# Altium footprint library WR-WTB.PcbLib: 259 footprints (part 11 of 17)
Each footprint in its own frame and in the unit in brackets; x right, y up, seen from the top. Pads: shape width x height; smd on the part's side, far side on the other; paste and mask are expansions set on the pad; w line width, h text height; cw(c..) or ccw(c..) is an arc to the next point about the centre after c.
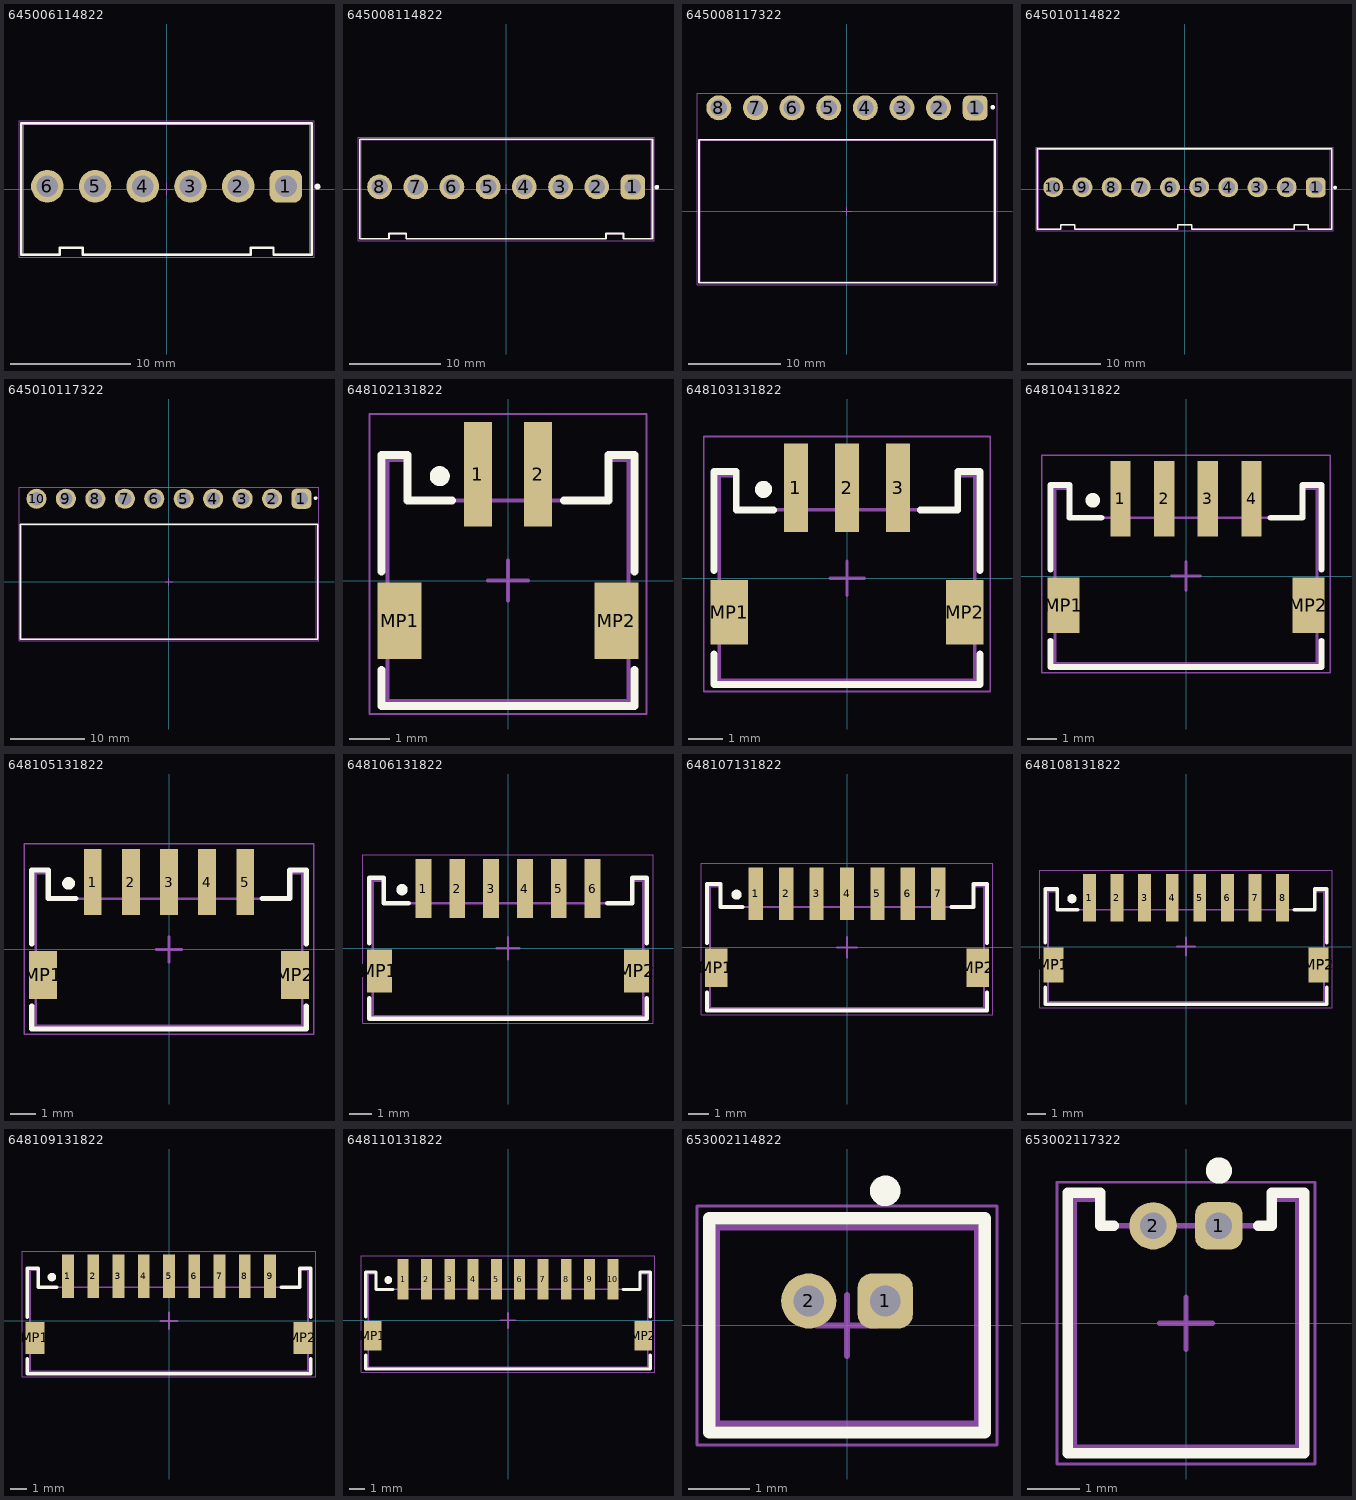
[diagram p10: the footprints below, top view; thin cyan lines are the x and y axes]

## 645006114822 [mm] "3.96mm Male Locking Header, 6p"
height 13.85
pads (6):
  rrect50% 2.7x2.7 hole 1.8: 1(9.9,0.225)
  round 2.7 hole 1.8: 2(5.94,0.225) 3(1.98,0.225) 4(-1.98,0.225) 5(-5.94,0.225) 6(-9.9,0.225)
Top Overlay:
  circle w0.25: c12.52,0.2 r0.125
  lines w0.2: -12.055,-5.45 -8.87,-5.45 -8.87,-4.875 -6.97,-4.875 -6.97,-5.45 6.97,-5.45 6.97,-4.875 8.87,-4.875 8.87,-5.45 12.055,-5.45 12.055,5.45 -12.055,5.45 -12.055,-5.45
Top Assembly:
  lines w0.1: -11.88,-5.375 -11.88,5.375 11.88,5.375 11.88,-5.375 8.87,-5.375 8.87,-4.875 6.97,-4.875 6.97,-5.375 -6.97,-5.375 -6.97,-4.875 -8.87,-4.875 -8.87,-5.375 -11.88,-5.375
Top Designator:
  text ".Designator" at -3.647,-0.357 h1
Top Courtyard:
  lines w0.05: -12.255,-5.65 -12.255,5.65 12.255,5.65 12.255,-5.65 -12.255,-5.65
Top Component Center:
  lines w0.1: -0.5,0 0.5,0 ; 0,-0.5 0,0.5
3D body "645006114822.stp": height 13.89, standoff -3.56, extent -11.935,-5.375 11.935,5.375

## 645008114822 [mm] "3.96mm Male Locking Header, 8p"
height 13.85
pads (8):
  rrect50% 2.7x2.7 hole 1.8: 1(13.86,0.225)
  round 2.7 hole 1.8: 2(9.9,0.225) 3(5.94,0.225) 4(1.98,0.225) 5(-1.98,0.225) 6(-5.94,0.225) 7(-9.9,0.225) 8(-13.86,0.225)
Top Overlay:
  circle w0.25: c16.48,0.2 r0.125
  lines w0.2: -16.015,-5.45 -16.015,5.45 16.015,5.45 16.015,-5.45 12.83,-5.45 12.83,-4.875 10.93,-4.875 10.93,-5.45 -10.93,-5.45 -10.93,-4.875 -12.83,-4.875 -12.83,-5.45 -16.015,-5.45
Top Assembly:
  lines w0.1: -15.84,-5.375 -15.84,5.375 15.84,5.375 15.84,-5.375 12.83,-5.375 12.83,-4.875 10.93,-4.875 10.93,-5.375 -10.93,-5.375 -10.93,-4.875 -12.83,-4.875 -12.83,-5.375 -15.84,-5.375
Top Designator:
  text ".Designator" at -3.647,-0.357 h1
Top Courtyard:
  lines w0.05: -16.215,-5.65 16.215,-5.65 16.215,5.65 -16.215,5.65 -16.215,-5.65
Top Component Center:
  lines w0.1: -0.5,0 0.5,0 ; 0,-0.5 0,0.5
3D body "645008114822.stp": height 13.89, standoff -3.56, extent -15.895,-5.375 15.895,5.375

## 645008117322 [mm] "3.96mm Male Right Angled Locking Header, 8p"
height 15.3
pads (8):
  rrect50% 2.7x2.7 hole 1.8: 1(13.86,11.18)
  round 2.7 hole 1.8: 2(9.9,11.18) 3(5.94,11.18) 4(1.98,11.18) 5(-1.98,11.18) 6(-5.94,11.18) 7(-9.9,11.18) 8(-13.86,11.18)
Top Overlay:
  circle w0.25: c15.755,11.25 r0.125
  lines w0.2: -16.015,-7.725 16.015,-7.725 16.015,7.725 -16.015,7.725 -16.015,-7.725
Top Assembly:
  lines w0.1: -15.84,-7.65 -15.84,7.65 15.84,7.65 15.84,-7.65 -15.84,-7.65
Top Designator:
  text ".Designator" at -3.647,-0.357 h1
Top Courtyard:
  lines w0.05: -16.215,-7.925 -16.215,12.73 16.215,12.73 16.215,-7.925 -16.215,-7.925
Top Component Center:
  lines w0.1: -0.5,0 0.5,0 ; 0,-0.5 0,0.5
3D body "645008117322.stp": height 10.79, standoff -3.63, extent -15.895,-7.65 15.895,11.8

## 645010114822 [mm] "3.96mm Male Locking Header, 10p"
height 13.85
pads (10):
  rrect50% 2.7x2.7 hole 1.8: 1(17.82,0.225)
  round 2.7 hole 1.8: 2(13.86,0.225) 3(9.9,0.225) 4(5.94,0.225) 5(1.98,0.225) 6(-1.98,0.225) 7(-5.94,0.225) 8(-9.9,0.225) 9(-13.86,0.225) 10(-17.82,0.225)
Top Overlay:
  circle w0.25: c20.44,0.2 r0.125
  lines w0.2: -19.975,-5.45 -19.975,5.45 19.975,5.45 19.975,-5.45 16.79,-5.45 16.79,-4.875 14.89,-4.875 14.89,-5.45 0.95,-5.45 0.95,-4.875 -0.95,-4.875 -0.95,-5.45 -14.89,-5.45 -14.89,-4.875 -16.79,-4.875 -16.79,-5.45 -19.975,-5.45
Top Assembly:
  lines w0.1: -19.8,-5.375 -19.8,5.375 19.8,5.375 19.8,-5.375 16.79,-5.375 16.79,-4.875 14.89,-4.875 14.89,-5.375 0.95,-5.375 0.95,-4.875 -0.95,-4.875 -0.95,-5.375 -14.89,-5.375 -14.89,-4.875 -16.79,-4.875 -16.79,-5.375 -19.8,-5.375
Top Designator:
  text ".Designator" at -3.647,-0.357 h1
Top Courtyard:
  lines w0.05: -20.175,-5.65 20.175,-5.65 20.175,5.65 -20.175,5.65 -20.175,-5.65
Top Component Center:
  lines w0.1: -0.5,0 0.5,0 ; 0,-0.5 0,0.5
3D body "645010114822.stp": height 13.89, standoff -3.56, extent -19.855,-5.375 19.855,5.375

## 645010117322 [mm] "3.96mm Male Right Angled Locking Header, 10p"
height 15.3
pads (10):
  rrect50% 2.7x2.7 hole 1.8: 1(17.82,11.18)
  round 2.7 hole 1.8: 2(13.86,11.18) 3(9.9,11.18) 4(5.94,11.18) 5(1.98,11.18) 6(-1.98,11.18) 7(-5.94,11.18) 8(-9.9,11.18) 9(-13.86,11.18) 10(-17.82,11.18)
Top Overlay:
  circle w0.25: c19.715,11.25 r0.125
  lines w0.2: -19.975,-7.725 -19.975,7.725 19.975,7.725 19.975,-7.725 -19.975,-7.725
Top Assembly:
  lines w0.1: -19.8,-7.65 19.8,-7.65 19.8,7.65 -19.8,7.65 -19.8,-7.65
Top Designator:
  text ".Designator" at -3.647,-0.357 h1
Top Courtyard:
  lines w0.05: -20.175,-7.925 20.175,-7.925 20.175,12.73 -20.175,12.73 -20.175,-7.925
Top Component Center:
  lines w0.1: -0.5,0 0.5,0 ; 0,-0.5 0,0.5
3D body "645010117322.stp": height 10.79, standoff -3.55, extent -19.855,-7.6 19.855,11.8

## 648102131822 [mm] "1.50mm SMT Male Horizontal Shrouded Header, 2p"
height 3.7
pads (4):
  rect 0.7x2.6 smd: 1(-0.75,2.65) 2(0.75,2.65)
  rect 1.1x1.9 smd: MP1(-2.7,-1) MP2(2.7,-1)
Top Overlay:
  circle w0.25: c-1.7,2.6 r0.125
  lines w0.2: -3.15,-2.225 -3.15,-3.125 3.15,-3.125 3.15,-2.225 ; -3.15,0.225 -3.15,3.125 -2.5,3.125 -2.5,2 -1.4,2 ; 1.4,2 2.5,2 2.5,3.125 3.15,3.125 3.15,0.225
Top Assembly:
  lines w0.1: -3,-3 -3,3 -2.5,3 -2.5,2 2.5,2 2.5,3 3,3 3,-3 -3,-3
Top Designator:
  text ".Designator" at -3.647,-0.357 h1
Top Courtyard:
  lines w0.05: -3.45,-3.325 -3.45,4.15 3.45,4.15 3.45,-3.325 -3.45,-3.325
Top Component Center:
  lines w0.1: -0.5,0 0.5,0 ; 0,-0.5 0,0.5
3D body "648102131822.stp": height 3.74, standoff -0.01, extent -3.105,-3 3.105,3.47

## 648103131822 [mm] "1.50mm SMT Male Horizontal Shrouded Header, 3p"
height 3.7
pads (5):
  rect 0.7x2.6 smd: 1(-1.5,2.65) 2(0,2.65) 3(1.5,2.65)
  rect 1.1x1.9 smd: MP1(-3.45,-1) MP2(3.45,-1)
Top Overlay:
  circle w0.25: c-2.45,2.6 r0.125
  lines w0.2: -3.9,-2.225 -3.9,-3.125 3.9,-3.125 3.9,-2.225 ; -3.9,0.225 -3.9,3.125 -3.25,3.125 -3.25,2 -2.15,2 ; 2.15,2 3.25,2 3.25,3.125 3.9,3.125 3.9,0.225
Top Assembly:
  lines w0.1: -3.75,-3 3.75,-3 3.75,3 3.25,3 3.25,2 -3.25,2 -3.25,3 -3.75,3 -3.75,-3
Top Designator:
  text ".Designator" at -3.647,-0.357 h1
Top Courtyard:
  lines w0.05: -4.2,-3.325 4.2,-3.325 4.2,4.15 -4.2,4.15 -4.2,-3.325
Top Component Center:
  lines w0.1: -0.5,0 0.5,0 ; 0,-0.5 0,0.5
3D body "648103131822.stp": height 3.74, standoff -0.01, extent -3.855,-3 3.855,3.47

## 648104131822 [mm] "1.50mm SMT Male Horizontal Shrouded Header, 4p"
height 3.7
pads (6):
  rect 0.7x2.6 smd: 1(-2.25,2.65) 2(-0.75,2.65) 3(0.75,2.65) 4(2.25,2.65)
  rect 1.1x1.9 smd: MP1(-4.2,-1) MP2(4.2,-1)
Top Overlay:
  circle w0.25: c-3.2,2.6 r0.125
  lines w0.2: -4.65,-2.225 -4.65,-3.125 4.65,-3.125 4.65,-2.225 ; -4.65,0.225 -4.65,3.125 -4,3.125 -4,2 -2.9,2 ; 2.9,2 4,2 4,3.125 4.65,3.125 4.65,0.225
Top Assembly:
  lines w0.1: -4.5,-3 4.5,-3 4.5,3 4,3 4,2 -4,2 -4,3 -4.5,3 -4.5,-3
Top Designator:
  text ".Designator" at -3.647,-0.357 h1
Top Courtyard:
  lines w0.05: -4.95,-3.325 4.95,-3.325 4.95,4.15 -4.95,4.15 -4.95,-3.325
Top Component Center:
  lines w0.1: -0.5,0 0.5,0 ; 0,-0.5 0,0.5
3D body "648104131822.stp": height 3.74, standoff -0.01, extent -4.605,-3 4.605,3.47

## 648105131822 [mm] "1.50mm SMT Male Horizontal Shrouded Header, 5p"
height 3.7
pads (7):
  rect 0.7x2.6 smd: 1(-3,2.65) 2(-1.5,2.65) 3(0,2.65) 4(1.5,2.65) 5(3,2.65)
  rect 1.1x1.9 smd: MP1(-4.95,-1) MP2(4.95,-1)
Top Overlay:
  circle w0.25: c-3.95,2.6 r0.125
  lines w0.2: -5.4,-2.225 -5.4,-3.125 5.4,-3.125 5.4,-2.225 ; -5.4,0.225 -5.4,3.125 -4.75,3.125 -4.75,2 -3.65,2 ; 3.65,2 4.75,2 4.75,3.125 5.4,3.125 5.4,0.225
Top Assembly:
  lines w0.1: -5.25,-3 5.25,-3 5.25,3 4.75,3 4.75,2 -4.75,2 -4.75,3 -5.25,3 -5.25,-3
Top Designator:
  text ".Designator" at -3.647,-0.357 h1
Top Courtyard:
  lines w0.05: -5.7,-3.325 5.7,-3.325 5.7,4.15 -5.7,4.15 -5.7,-3.325
Top Component Center:
  lines w0.1: -0.5,0 0.5,0 ; 0,-0.5 0,0.5
3D body "648105131822.stp": height 3.74, standoff -0.01, extent -5.355,-3 5.355,3.47

## 648106131822 [mm] "1.50mm SMT Male Horizontal Shrouded Header, 6p"
height 3.7
pads (8):
  rect 0.7x2.6 smd: 1(-3.75,2.65) 2(-2.25,2.65) 3(-0.75,2.65) 4(0.75,2.65) 5(2.25,2.65) 6(3.75,2.65)
  rect 1.1x1.9 smd: MP1(-5.7,-1) MP2(5.7,-1)
Top Overlay:
  circle w0.25: c-4.7,2.6 r0.125
  lines w0.2: -6.15,-2.225 -6.15,-3.125 6.15,-3.125 6.15,-2.225 ; -6.15,0.225 -6.15,3.125 -5.5,3.125 -5.5,2 -4.4,2 ; 4.4,2 5.5,2 5.5,3.125 6.15,3.125 6.15,0.225
Top Assembly:
  lines w0.1: -6,-3 6,-3 6,3 5.5,3 5.5,2 -5.5,2 -5.5,3 -6,3 -6,-3
Top Designator:
  text ".Designator" at -3.647,-0.357 h1
Top Courtyard:
  lines w0.05: -6.45,-3.325 6.45,-3.325 6.45,4.15 -6.45,4.15 -6.45,-3.325
Top Component Center:
  lines w0.1: -0.5,0 0.5,0 ; 0,-0.5 0,0.5
3D body "648106131822.stp": height 3.74, standoff -0.01, extent -6.105,-3 6.105,3.47

## 648107131822 [mm] "1.50mm SMT Male Horizontal Shrouded Header, 7p"
height 3.7
pads (9):
  rect 0.7x2.6 smd: 1(-4.5,2.65) 2(-3,2.65) 3(-1.5,2.65) 4(0,2.65) 5(1.5,2.65) 6(3,2.65) 7(4.5,2.65)
  rect 1.1x1.9 smd: MP1(-6.45,-1) MP2(6.45,-1)
Top Overlay:
  circle w0.25: c-5.45,2.6 r0.125
  lines w0.2: -6.9,-2.225 -6.9,-3.125 6.9,-3.125 6.9,-2.225 ; -6.9,0.225 -6.9,3.125 -6.25,3.125 -6.25,2 -5.15,2 ; 5.15,2 6.25,2 6.25,3.125 6.9,3.125 6.9,0.225
Top Assembly:
  lines w0.1: -6.75,-3 -6.75,3 -6.25,3 -6.25,2 6.25,2 6.25,3 6.75,3 6.75,-3 -6.75,-3
Top Designator:
  text ".Designator" at -3.647,-0.357 h1
Top Courtyard:
  lines w0.05: -7.2,-3.325 -7.2,4.15 7.2,4.15 7.2,-3.325 -7.2,-3.325
Top Component Center:
  lines w0.1: -0.5,0 0.5,0 ; 0,-0.5 0,0.5
3D body "648107131822.stp": height 3.74, standoff -0.01, extent -6.855,-3 6.855,3.47

## 648108131822 [mm] "1.50mm SMT Male Horizontal Shrouded Header, 8p"
height 3.7
pads (10):
  rect 0.7x2.6 smd: 1(-5.25,2.65) 2(-3.75,2.65) 3(-2.25,2.65) 4(-0.75,2.65) 5(0.75,2.65) 6(2.25,2.65) 7(3.75,2.65) 8(5.25,2.65)
  rect 1.1x1.9 smd: MP1(-7.2,-1) MP2(7.2,-1)
Top Overlay:
  circle w0.25: c-6.2,2.6 r0.125
  lines w0.2: -7.65,-2.225 -7.65,-3.125 7.65,-3.125 7.65,-2.225 ; -7.65,0.225 -7.65,3.125 -7,3.125 -7,2 -5.9,2 ; 5.9,2 7,2 7,3.125 7.65,3.125 7.65,0.225
Top Assembly:
  lines w0.1: -7.5,-3 -7.5,3 -7,3 -7,2 7,2 7,3 7.5,3 7.5,-3 -7.5,-3
Top Designator:
  text ".Designator" at -3.647,-0.357 h1
Top Courtyard:
  lines w0.05: -7.95,-3.325 -7.95,4.15 7.95,4.15 7.95,-3.325 -7.95,-3.325
Top Component Center:
  lines w0.1: -0.5,0 0.5,0 ; 0,-0.5 0,0.5
3D body "648108131822.stp": height 3.74, standoff -0.01, extent -7.605,-3 7.605,3.47

## 648109131822 [mm] "1.50mm SMT Male Horizontal Shrouded Header, 9p"
height 3.7
pads (11):
  rect 0.7x2.6 smd: 1(-6,2.65) 2(-4.5,2.65) 3(-3,2.65) 4(-1.5,2.65) 5(0,2.65) 6(1.5,2.65) 7(3,2.65) 8(4.5,2.65) 9(6,2.65)
  rect 1.1x1.9 smd: MP1(-7.95,-1) MP2(7.95,-1)
Top Overlay:
  circle w0.25: c-6.95,2.6 r0.125
  lines w0.2: -8.4,-2.225 -8.4,-3.125 8.4,-3.125 8.4,-2.225 ; -8.4,0.225 -8.4,3.125 -7.75,3.125 -7.75,2 -6.65,2 ; 6.65,2 7.75,2 7.75,3.125 8.4,3.125 8.4,0.225
Top Assembly:
  lines w0.1: -8.25,-3 -8.25,3 -7.75,3 -7.75,2 7.75,2 7.75,3 8.25,3 8.25,-3 -8.25,-3
Top Designator:
  text ".Designator" at -3.647,-0.357 h1
Top Courtyard:
  lines w0.05: -8.7,-3.325 -8.7,4.15 8.7,4.15 8.7,-3.325 -8.7,-3.325
Top Component Center:
  lines w0.1: -0.5,0 0.5,0 ; 0,-0.5 0,0.5
3D body "648109131822.stp": height 3.74, standoff -0.01, extent -8.355,-3 8.355,3.47

## 648110131822 [mm] "1.50mm SMT Male Horizontal Shrouded Header, 10p"
height 3.7
pads (12):
  rect 0.7x2.6 smd: 1(-6.75,2.65) 2(-5.25,2.65) 3(-3.75,2.65) 4(-2.25,2.65) 5(-0.75,2.65) 6(0.75,2.65) 7(2.25,2.65) 8(3.75,2.65) 9(5.25,2.65) 10(6.75,2.65)
  rect 1.1x1.9 smd: MP1(-8.7,-1) MP2(8.7,-1)
Top Overlay:
  circle w0.25: c-7.7,2.6 r0.125
  lines w0.2: -9.15,-2.225 -9.15,-3.125 9.15,-3.125 9.15,-2.225 ; -9.15,0.225 -9.15,3.125 -8.5,3.125 -8.5,2 -7.4,2 ; 7.4,2 8.5,2 8.5,3.125 9.15,3.125 9.15,0.225
Top Assembly:
  lines w0.1: -9,-3 -9,3 -8.5,3 -8.5,2 8.5,2 8.5,3 9,3 9,-3 -9,-3
Top Designator:
  text ".Designator" at -3.647,-0.357 h1
Top Courtyard:
  lines w0.05: -9.45,-3.325 -9.45,4.15 9.45,4.15 9.45,-3.325 -9.45,-3.325
Top Component Center:
  lines w0.1: -0.5,0 0.5,0 ; 0,-0.5 0,0.5
3D body "648110131822.stp": height 3.74, standoff -0.01, extent -9.105,-3 9.105,3.47

## 653002114822 [mm] "1.25mm Male Vertical Shrouded Header, 2p"
height 4.2
pads (2):
  rrect50% 0.9x0.9 hole 0.5: 1(0.625,0.4)
  round 0.9 hole 0.5: 2(-0.625,0.4)
Top Overlay:
  circle w0.25: c0.625,2.2 r0.125
  lines w0.2: -2.25,-1.75 -2.25,1.75 2.25,1.75 2.25,-1.75 -2.25,-1.75
Top Assembly:
  lines w0.1: -2.125,-1.6 2.125,-1.6 2.125,1.6 -2.125,1.6 -2.125,-1.6
Top Designator:
  text ".Designator" at -3.647,-0.357 h1
Top Courtyard:
  lines w0.05: -2.45,-1.95 -2.45,1.95 2.45,1.95 2.45,-1.95 -2.45,-1.95
Top Component Center:
  lines w0.1: -0.5,0 0.5,0 ; 0,-0.5 0,0.5
3D body "653002114822.stp": height 4.23, standoff -2.27, extent -2.125,-1.6 2.125,1.6

## 653002117322 [mm] "1.25mm Male Horizontal Shrouded Header, 2p"
height 3.5
pads (2):
  rrect50% 0.9x0.9 hole 0.5: 1(0.625,1.85)
  round 0.9 hole 0.5: 2(-0.625,1.85)
Top Overlay:
  circle w0.25: c0.625,2.9 r0.125
  lines w0.2: -1.375,1.85 -1.625,1.85 -1.625,2.475 -2.25,2.475 -2.25,-2.475 2.25,-2.475 2.25,2.475 1.625,2.475 1.625,1.85 1.375,1.85
Top Assembly:
  lines w0.1: -2.125,-2.35 2.125,-2.35 2.125,2.35 1.625,2.35 1.625,1.85 -1.625,1.85 -1.625,2.35 -2.125,2.35 -2.125,-2.35
Top Designator:
  text ".Designator" at -3.647,-0.357 h1
Top Courtyard:
  lines w0.05: -2.45,-2.675 2.45,-2.675 2.45,2.675 -2.45,2.675 -2.45,-2.675
Top Component Center:
  lines w0.1: -0.5,0 0.5,0 ; 0,-0.5 0,0.5
3D body "653002117322.stp": height 3.53, standoff -2.27, extent -2.125,-2.35 2.125,2.35